# Altium schematic symbol library Schlib1.SchLib: 1 symbol
Pins are listed as number, name and electrical type; pins without a type are passive.

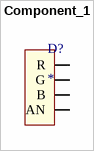
[diagram p0: symbol Component_1]

## Component_1
designator D?
footprint PCBComponent_1
pins: 1 R, 2 G, 3 B, 4 AN